# Altium schematic symbol library 3-1827231-6.SchLib: 1 symbol
Pins are listed as number, name and electrical type; pins without a type are passive.

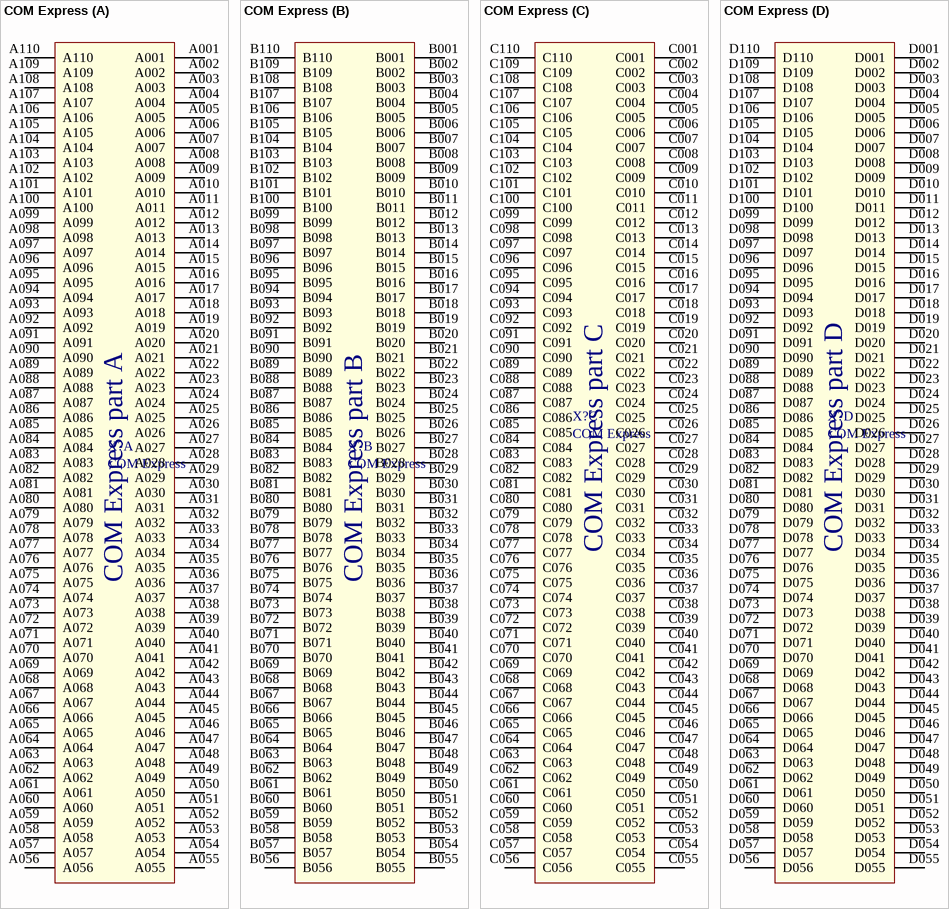
[diagram p0: symbol COM Express]

## COM Express
designator X?
value: 3-1827231-6
footprint 3-1827231-6 (FH-0.5 Board-To-Board Connector 440P)
part A pins: A001, A002, A003, A004, A005, A006, A007, A008, A009, A010, A011, A012, A013, A014, A015, A016, A017, A018, A019, A020, A021, A022, A023, A024, A025, A026, A027, A028, A029, A030, A031, A032, A033, A034, A035, A036, A037, A038, A039, A040, A041, A042, A043, A044, A045, A046, A047, A048, A049, A050, A051, A052, A053, A054, A055, A056, A057, A058, A059, A060, A061, A062, A063, A064, A065, A066, A067, A068, A069, A070, A071, A072, A073, A074, A075, A076, A077, A078, A079, A080, A081, A082, A083, A084, A085, A086, A087, A088, A089, A090, A091, A092, A093, A094, A095, A096, A097, A098, A099, A100, A101, A102, A103, A104, A105, A106, A107, A108, A109, A110
part B pins: B001, B002, B003, B004, B005, B006, B007, B008, B009, B010, B011, B012, B013, B014, B015, B016, B017, B018, B019, B020, B021, B022, B023, B024, B025, B026, B027, B028, B029, B030, B031, B032, B033, B034, B035, B036, B037, B038, B039, B040, B041, B042, B043, B044, B045, B046, B047, B048, B049, B050, B051, B052, B053, B054, B055, B056, B057, B058, B059, B060, B061, B062, B063, B064, B065, B066, B067, B068, B069, B070, B071, B072, B073, B074, B075, B076, B077, B078, B079, B080, B081, B082, B083, B084, B085, B086, B087, B088, B089, B090, B091, B092, B093, B094, B095, B096, B097, B098, B099, B100, B101, B102, B103, B104, B105, B106, B107, B108, B109, B110
part C pins: C001, C002, C003, C004, C005, C006, C007, C008, C009, C010, C011, C012, C013, C014, C015, C016, C017, C018, C019, C020, C021, C022, C023, C024, C025, C026, C027, C028, C029, C030, C031, C032, C033, C034, C035, C036, C037, C038, C039, C040, C041, C042, C043, C044, C045, C046, C047, C048, C049, C050, C051, C052, C053, C054, C055, C056, C057, C058, C059, C060, C061, C062, C063, C064, C065, C066, C067, C068, C069, C070, C071, C072, C073, C074, C075, C076, C077, C078, C079, C080, C081, C082, C083, C084, C085, C086, C087, C088, C089, C090, C091, C092, C093, C094, C095, C096, C097, C098, C099, C100, C101, C102, C103, C104, C105, C106, C107, C108, C109, C110
part D pins: D001, D002, D003, D004, D005, D006, D007, D008, D009, D010, D011, D012, D013, D014, D015, D016, D017, D018, D019, D020, D021, D022, D023, D024, D025, D026, D027, D028, D029, D030, D031, D032, D033, D034, D035, D036, D037, D038, D039, D040, D041, D042, D043, D044, D045, D046, D047, D048, D049, D050, D051, D052, D053, D054, D055, D056, D057, D058, D059, D060, D061, D062, D063, D064, D065, D066, D067, D068, D069, D070, D071, D072, D073, D074, D075, D076, D077, D078, D079, D080, D081, D082, D083, D084, D085, D086, D087, D088, D089, D090, D091, D092, D093, D094, D095, D096, D097, D098, D099, D100, D101, D102, D103, D104, D105, D106, D107, D108, D109, D110
part A text: COM Express part A
part B text: COM Express part B
part C text: COM Express part C
part D text: COM Express part D